# Altium schematic symbol library 1206 47uF 10V.Schlib: 1 symbol
Pins are listed as number, name and electrical type; pins without a type are passive.

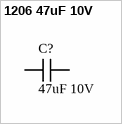
[diagram p0: symbol 1206 47uF 10V]

## 1206 47uF 10V
designator C?, comment value 47uF 10V  (hidden comment: Capacitor)
47uF ±20% 10V X5R 1206 Multilayer Ceramic Capacitors MLCC - SMD/SMT RoHS; LCSC Part #: C96123; ComponentLink1Description: LCSC - Samsung Electro-Mechanics CL31A476MPHNNNE; ComponentLink1URL: https://lcsc.com/product-detail/Multilayer-Ceramic-Capacitors-MLCC-SMD-SMT_SAMSUNG_CL31A476MPHNNNE_47uF-476-20-10V_C96123.html/?href=jlc-SMT; JLCPCB Part Type: Basic
footprint CAP 1206_3216 - 1.2MM (Chip Capacitor, 2-Leads, Body 3.25x1.60mm, IPC Medium Density)
pins: 1, 2